# Altium schematic symbol library ATTINY402-SSNR.SchLib: 1 symbol
Pins are listed as number, name and electrical type; pins without a type are passive.

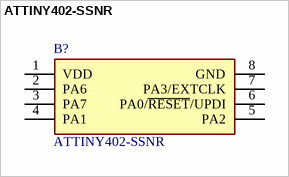
[diagram p0: symbol ATTINY402-SSNR]

## ATTINY402-SSNR
designator B?
MCU 8-bit AVR RISC 4KB Flash 3.3V/5V 8-Pin SOIC W T/R; Manufacturer_Name: Microchip; Geometry.Height: 1.75mm; Manufacturer_Part_Number: ATTINY402-SSNR; Mouser Part Number: 579-ATTINY402-SSNR; Mouser Price/Stock: https://www.mouser.co.uk/ProductDetail/Microchip-Technology/ATTINY402-SSNR?qs=y6ZabgHbY%252ByACmf8rx9w5A%3D%3D; Arrow Part Number: ATTINY402-SSNR; Arrow Price/Stock: https://www.arrow.com/en/products/attiny402-ssnr/microchip-technology?region=nac; Datasheet Link: https://www.microchip.com/
footprint SOIC127P600X175-8N
pins: 1 VDD, 2 PA6, 3 PA7, 4 PA1, 5 PA2, 6 PA0/~{RESET}/UPDI, 7 PA3/EXTCLK, 8 GND